# Altium footprint library 插接件.PcbLib: 3 footprints
Each footprint in its own frame and in the unit in brackets; x right, y up, seen from the top. Pads: shape width x height; smd on the part's side, far side on the other; paste and mask are expansions set on the pad; w line width, h text height; cw(c..) or ccw(c..) is an arc to the next point about the centre after c.
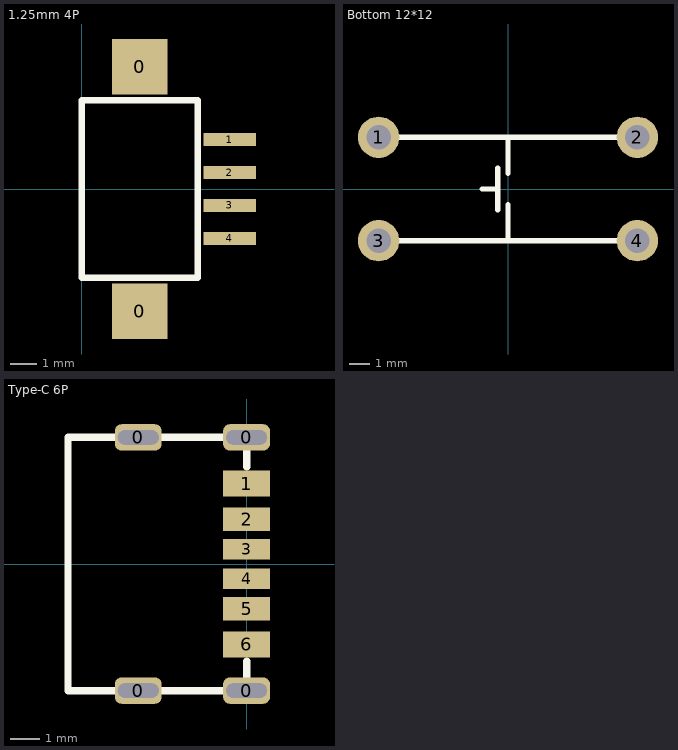
[diagram p0: the footprints below, top view; thin cyan lines are the x and y axes]

## 1.25mm 4P [mm]
pads (6):
  rect 2.1x2.1 smd: 0(2.2,-4.65) 0(2.2,4.65)
  rect 2x0.5 smd: 1(5.625,1.875) 2(5.625,0.625) 3(5.625,-0.625) 4(5.625,-1.875)
Top Overlay:
  lines w0.254: 0,-3.375 0,0 0,3.375 4.4,3.375 4.4,-3.375 0,-3.375
3D body: height 3.5, standoff 0, extent 0.204,-5.488 5.604,5.462

## Bottom 12*12 [mm]
pads (4):
  round 2 hole 1.2: 1(-6.25,2.5) 2(6.25,2.5) 3(-6.25,-2.5) 4(6.25,-2.5)
Top Overlay:
  lines w0.254: -6.25,-2.5 6.25,-2.5 ; -6.25,2.5 0,2.5 ; -1.25,0 -0.5,0 ; -0.5,-1 -0.5,1 ; 0,-2.5 0,-0.75 ; 0,0.75 0,2.5 ; 6.25,2.5 0,2.5

## Type-C 6P [mm]
pads (10):
  rrect50% 1.6x0.9 hole 0.5 slot 1.4 at 0 deg: 0(-3.7,-4.325) 0(-3.7,4.325) 0(0,-4.325) 0(0,4.325)
  rect 1.6x0.9 smd: 1(0,2.75) 6(0,-2.75)
  rect 1.6x0.8 smd: 2(0,1.525) 5(0,-1.525)
  rect 1.6x0.7 smd: 3(0,0.5) 4(0,-0.5)
Top Overlay:
  lines w0.254: 0,-3.325 0,-4.325 -3.7,-4.325 -6.1,-4.325 -6.1,4.325 0,4.325 0,3.325
3D body: height 3.15, standoff -0.99, extent -6.375,-4.475 0.775,4.475